# Altium footprint library phisical.PcbLib: 6 footprints
Each footprint in its own frame and in the unit in brackets; x right, y up, seen from the top. Pads: shape width x height; smd on the part's side, far side on the other; paste and mask are expansions set on the pad; w line width, h text height; cw(c..) or ccw(c..) is an arc to the next point about the centre after c.
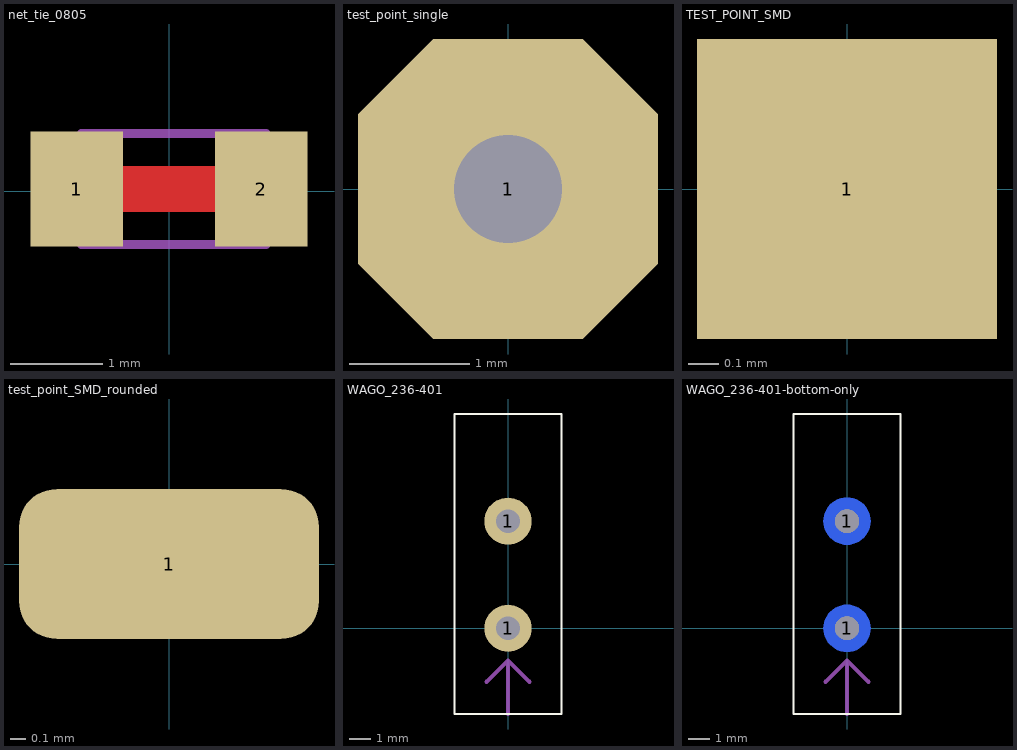
[diagram p0: the footprints below, top view; thin cyan lines are the x and y axes]

## net_tie_0805 [mm]
pads (2):
  rect 1x1.25 smd: 1(-1,0.025) 2(1,0.025)
Top Layer:
  lines w0.5: -1,0.025 1,0.025
Mechanical 1:
  lines w0.1: -0.949,-0.575 1.05,-0.575 1.05,0.625 -0.949,0.625 -0.949,-0.575

## test_point_single [mm]
pads (1):
  oct 2.5x2.5 hole 0.9: 1(0,0)

## TEST_POINT_SMD [mm]
pads (1):
  rect 1x1 smd: 1(0,0)

## test_point_SMD_rounded [mm]
pads (1):
  rrect50% 2x1 smd: 1(0,0)

## WAGO_236-401 [mm]
pads (2):
  round 2.2 hole 1.1: 1(0,0) 1(0,5)
Top Overlay:
  lines w0.1: -2.5,-4 2.5,-4 2.5,0 2.5,10 -2.5,10 -2.5,0 -2.5,-4
Mechanical 1:
  lines w0.2: -1,-2.5 0,-1.5 ; 0,-4 0,-1.5 ; 1,-2.5 0,-1.5

## WAGO_236-401-bottom-only [mm]
pads (2):
  round 2.2 smd far side: 1(0,0) 1(0,5)
via 0,0 diameter 1.1 hole 1.1
via 0,5 diameter 1.1 hole 1.1
Top Overlay:
  lines w0.1: -2.5,-4 2.5,-4 2.5,0 2.5,10 -2.5,10 -2.5,0 -2.5,-4
Mechanical 1:
  lines w0.2: -1,-2.5 0,-1.5 ; 0,-4 0,-1.5 ; 1,-2.5 0,-1.5